# EAGLE library part ADF4350 (library analogdevices-freqsynth)
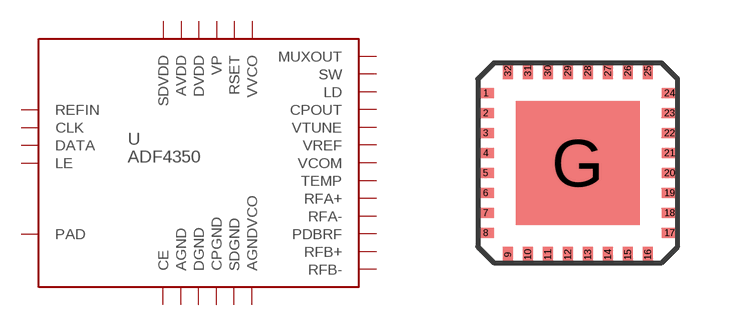
[diagram p0: symbol with the pads of VFQFN32; footprint VFQFN32]

Designator prefix -

## ADF4350  [VFQFN32]
1  CLK
2  DATA
3  LE
4  CE
5  SW
6  VP
7  CPOUT
8  CPGND
9  AGND
10  AVDD
11  AGNDVCO
12  RFA+
13  RFA-
14  RFB+
15  RFB-
16  VVCO
17  VVCO1
18  AGNDVCO1
19  TEMP
20  VTUNE
21  AGNDVCO2
22  RSET
23  VCOM
24  VREF
25  LD
26  PDBRF
27  DGND
28  DVDD
29  REFIN
30  MUXOUT
31  SDGND
32  SDVDD
G  PAD

## Footprint VFQFN32 (pad centres in mm)
smd 0.4 x 0.25: 1 -2.3,1.75; 2 -2.3,1.25; 3 -2.3,0.75; 4 -2.3,0.25; 5 -2.3,-0.25; 6 -2.3,-0.75; 7 -2.3,-1.25; 8 -2.3,-1.75; 17 2.3,-1.75; 18 2.3,-1.25; 19 2.3,-0.75; 20 2.3,-0.25; 21 2.3,0.25; 22 2.3,0.75; 23 2.3,1.25; 24 2.3,1.75
smd 0.25 x 0.4: 9 -1.75,-2.3; 10 -1.25,-2.3; 11 -0.75,-2.3; 12 -0.25,-2.3; 13 0.25,-2.3; 14 0.75,-2.3; 15 1.25,-2.3; 16 1.75,-2.3; 25 1.75,2.3; 26 1.25,2.3; 27 0.75,2.3; 28 0.25,2.3; 29 -0.25,2.3; 30 -0.75,2.3; 31 -1.25,2.3; 32 -1.75,2.3
smd 3.1 x 3.1: G 0,0